# Altium schematic symbol library V24 125 Модуль.Schlib: 1 symbol
Pins are listed as number, name and electrical type; pins without a type are passive.

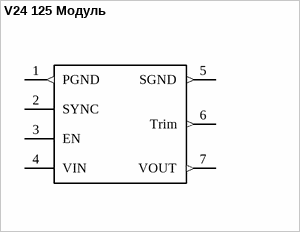
[diagram p0: symbol V24 125 Модуль]

## V24 125 Модуль
designator A?
Driver
pins: 1 PGND (out), 2 SYNC (power), 3 EN (power), 4 VIN (power), 5 SGND (out), 6 Trim (out), 7 VOUT (out)